# Altium schematic symbol library SCH - ARM CORTEX - STM STM32L041C6Ux.SchLib: 1 symbol
Pins are listed as number, name and electrical type; pins without a type are passive.

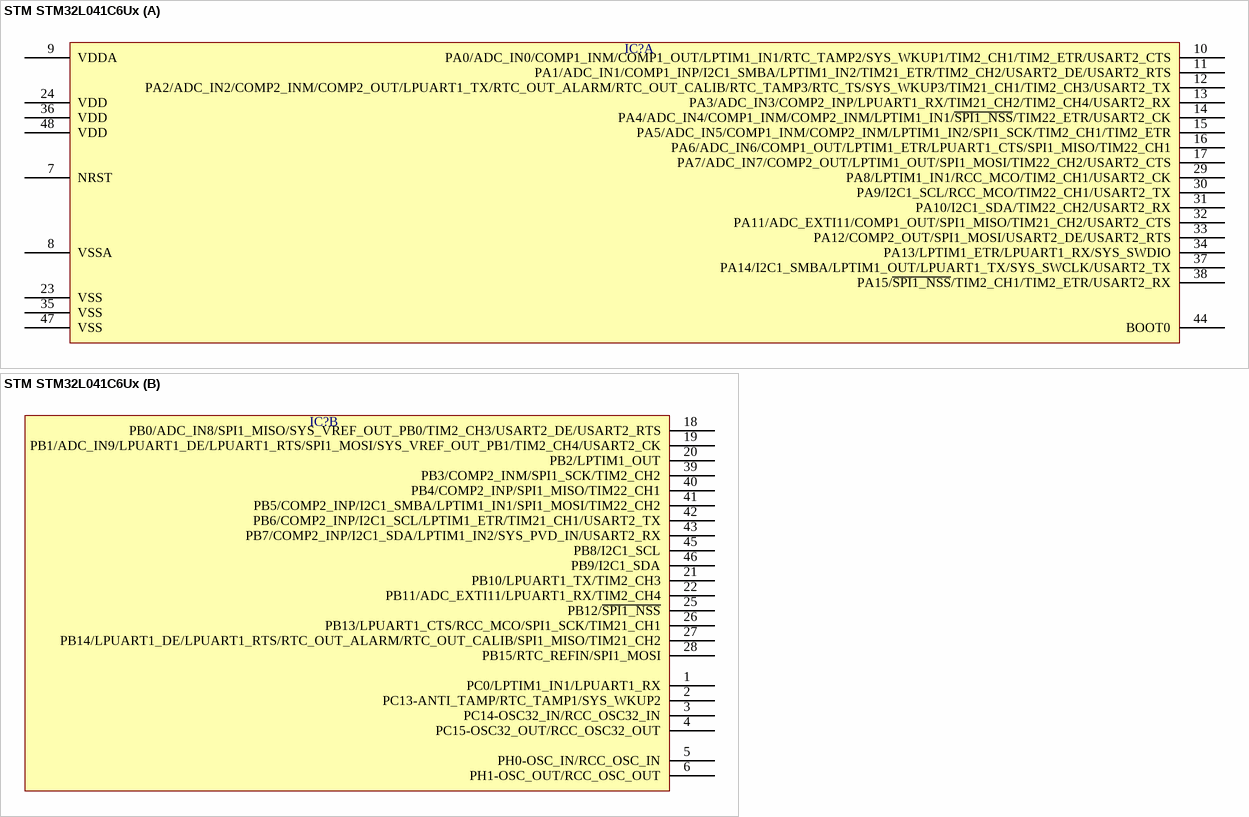
[diagram p0: symbol STM STM32L041C6Ux]

## STM STM32L041C6Ux
designator IC?  (value not drawn)
part A pins: 7 NRST, 8 VSSA, 9 VDDA, 10 PA0/ADC_IN0/COMP1_INM/COMP1_OUT/LPTIM1_IN1/RTC_TAMP2/SYS_WKUP1/TIM2_CH1/TIM2_ETR/USART2_CTS, 11 PA1/ADC_IN1/COMP1_INP/I2C1_SMBA/LPTIM1_IN2/TIM21_ETR/TIM2_CH2/USART2_DE/USART2_RTS, 12 PA2/ADC_IN2/COMP2_INM/COMP2_OUT/LPUART1_TX/RTC_OUT_ALARM/RTC_OUT_CALIB/RTC_TAMP3/RTC_TS/SYS_WKUP3/TIM21_CH1/TIM2_CH3/USART2_TX, 13 PA3/ADC_IN3/COMP2_INP/LPUART1_RX/TIM21_CH2/TIM2_CH4/USART2_RX, 14 PA4/ADC_IN4/COMP1_INM/COMP2_INM/LPTIM1_IN1/~{SPI1_NSS}/TIM22_ETR/USART2_CK, 15 PA5/ADC_IN5/COMP1_INM/COMP2_INM/LPTIM1_IN2/SPI1_SCK/TIM2_CH1/TIM2_ETR, 16 PA6/ADC_IN6/COMP1_OUT/LPTIM1_ETR/LPUART1_CTS/SPI1_MISO/TIM22_CH1, 17 PA7/ADC_IN7/COMP2_OUT/LPTIM1_OUT/SPI1_MOSI/TIM22_CH2/USART2_CTS, 23 VSS, 24 VDD, 29 PA8/LPTIM1_IN1/RCC_MCO/TIM2_CH1/USART2_CK, 30 PA9/I2C1_SCL/RCC_MCO/TIM22_CH1/USART2_TX, 31 PA10/I2C1_SDA/TIM22_CH2/USART2_RX, 32 PA11/ADC_EXTI11/COMP1_OUT/SPI1_MISO/TIM21_CH2/USART2_CTS, 33 PA12/COMP2_OUT/SPI1_MOSI/USART2_DE/USART2_RTS, 34 PA13/LPTIM1_ETR/LPUART1_RX/SYS_SWDIO, 35 VSS, 36 VDD, 37 PA14/I2C1_SMBA/LPTIM1_OUT/LPUART1_TX/SYS_SWCLK/USART2_TX, 38 PA15/~{SPI1_NSS}/TIM2_CH1/TIM2_ETR/USART2_RX, 44 BOOT0, 47 VSS, 48 VDD
part B pins: 1 PC0/LPTIM1_IN1/LPUART1_RX, 2 PC13-ANTI_TAMP/RTC_TAMP1/SYS_WKUP2, 3 PC14-OSC32_IN/RCC_OSC32_IN, 4 PC15-OSC32_OUT/RCC_OSC32_OUT, 5 PH0-OSC_IN/RCC_OSC_IN, 6 PH1-OSC_OUT/RCC_OSC_OUT, 18 PB0/ADC_IN8/SPI1_MISO/SYS_VREF_OUT_PB0/TIM2_CH3/USART2_DE/USART2_RTS, 19 PB1/ADC_IN9/LPUART1_DE/LPUART1_RTS/SPI1_MOSI/SYS_VREF_OUT_PB1/TIM2_CH4/USART2_CK, 20 PB2/LPTIM1_OUT, 21 PB10/LPUART1_TX/TIM2_CH3, 22 PB11/ADC_EXTI11/LPUART1_RX/TIM2_CH4, 25 PB12/~{SPI1_NSS}, 26 PB13/LPUART1_CTS/RCC_MCO/SPI1_SCK/TIM21_CH1, 27 PB14/LPUART1_DE/LPUART1_RTS/RTC_OUT_ALARM/RTC_OUT_CALIB/SPI1_MISO/TIM21_CH2, 28 PB15/RTC_REFIN/SPI1_MOSI, 39 PB3/COMP2_INM/SPI1_SCK/TIM2_CH2, 40 PB4/COMP2_INP/SPI1_MISO/TIM22_CH1, 41 PB5/COMP2_INP/I2C1_SMBA/LPTIM1_IN1/SPI1_MOSI/TIM22_CH2, 42 PB6/COMP2_INP/I2C1_SCL/LPTIM1_ETR/TIM21_CH1/USART2_TX, 43 PB7/COMP2_INP/I2C1_SDA/LPTIM1_IN2/SYS_PVD_IN/USART2_RX, 45 PB8/I2C1_SCL, 46 PB9/I2C1_SDA